# Altium schematic symbol library powerAmp.SchLib: 1 symbol
Pins are listed as number, name and electrical type; pins without a type are passive.

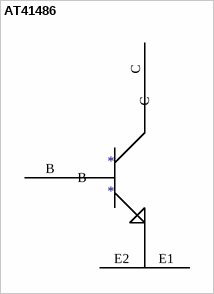
[diagram p0: symbol AT41486]

## AT41486
designator *
footprint AT41486
pins: B, C, E1, E2